# EAGLE library part ILD620 (library optocoupler_sendec)
SIEMENS OPTO COUPLER
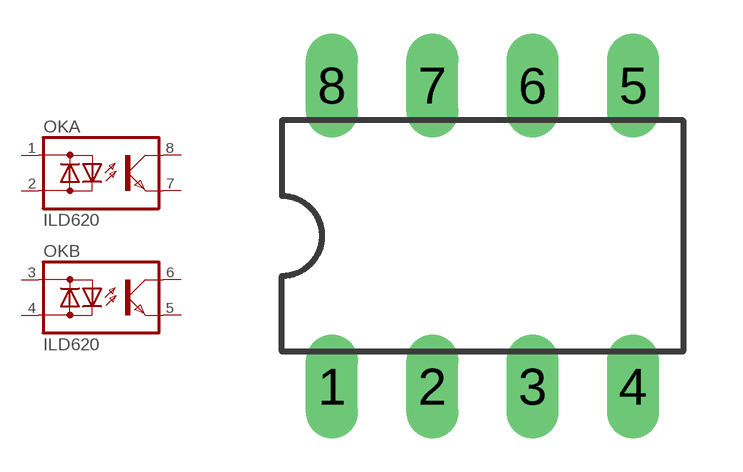
[diagram p5: symbol with the pads of DIL08; footprint DIL08]

Designator prefix OK; gates A=OK-LD B=OK-LD

## ILD620  [DIL08]
1  A:AC1  pas
2  A:AC2  pas
3  B:AC1  pas
4  B:AC2  pas
5  B:E  pas
6  B:C  pas
7  A:E  pas
8  A:C  pas

## Footprint DIL08 (pad centres in mm)
Dual In Line Package
drill 0.813 long: 1 -3.81,-3.81; 2 -1.27,-3.81; 3 1.27,-3.81; 4 3.81,-3.81; 5 3.81,3.81; 6 1.27,3.81; 7 -1.27,3.81; 8 -3.81,3.81